# Altium footprint library BAT600.PcbLib: 1 footprints
Each footprint in its own frame and in the unit in brackets; x right, y up, seen from the top. Pads: shape width x height; smd on the part's side, far side on the other; paste and mask are expansions set on the pad; w line width, h text height; cw(c..) or ccw(c..) is an arc to the next point about the centre after c.
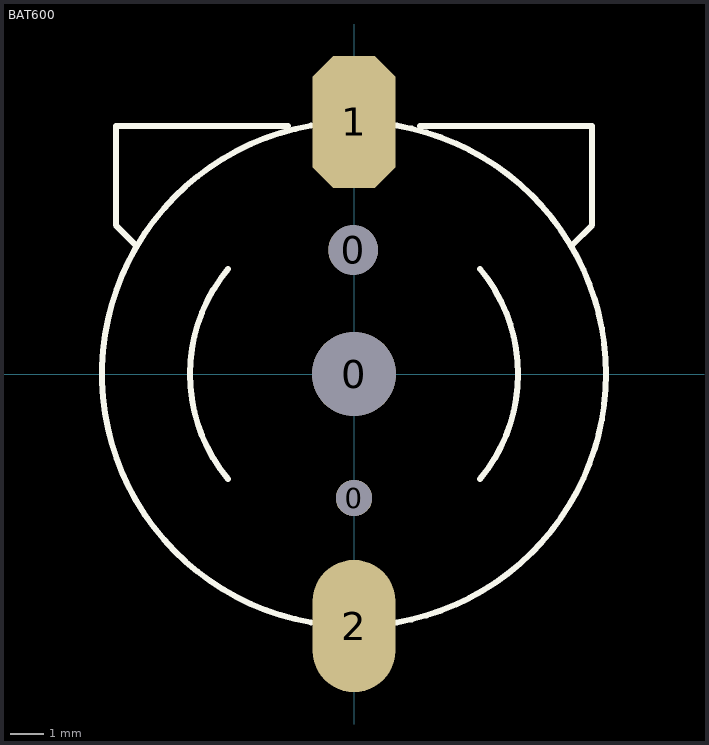
[diagram p0: the footprint, top view; thin cyan lines are the x and y axes]

## BAT600 [mm]
pads (5):
  round 1.5 hole 1.5: 0(-0.025,3.75)
  round 1.1 hole 1.1: 0(0,-3.75)
  round 2.54 hole 2.54: 0(0,0)
  oct 2.5x4 smd: 1(0,7.62)
  oval 2.5x4 smd: 2(0,-7.62)
Top Overlay:
  lines w0.178: -6.625,3.925 -7.2,4.5 -7.2,7.5 -2,7.5 ; -3.812,-3.172 cw(c0,0) -3.81,3.175 ; -0.833,-7.574 cw(c0,0) -0.833,7.574 ; 0.833,-7.574 ccw(c0,0) 7.62,0 ccw(c0,0) 0.833,7.574 ; 2,7.5 7.2,7.5 7.2,4.5 6.6,3.9 ; 3.812,-3.172 ccw(c0,0) 3.815,3.169